# EAGLE library part TPS5430 (library custom)
Synchronous Buck Converter Voltage Regulator 4.5-28V In 0.6-28V Out 3A 400kHz
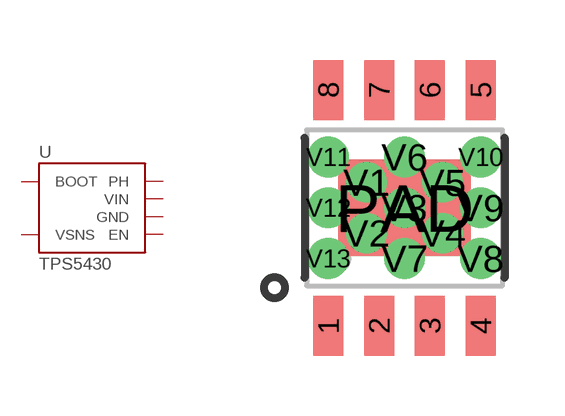
[diagram p51: symbol with the pads of 8-SOIC-PWR; footprint 8-SOIC-PWR]

Designator prefix U

## TPS5430  [8-SOIC-PWR]
1  BOOT
4  VSNS
5  EN
6  GND
7  VIN
8  PH
PAD  GND
V1  GND
V2  GND
V3  GND
V4  GND
V5  GND

## Footprint 8-SOIC-PWR (pad centres in mm)
smd 0.75 x 1.5: 1 -1.905,-2.95; 2 -0.635,-2.95; 3 0.635,-2.95; 4 1.905,-2.95; 5 1.905,2.95; 6 0.635,2.95; 7 -0.635,2.95; 8 -1.905,2.95
smd 3.302 x 2.413: PAD 0,0
drill 0.508: V1 -0.953,0.635; V2 -0.953,-0.635; V3 0,0; V4 0.953,-0.635; V5 0.953,0.635; V6 0,1.27; V7 0,-1.27; V8 1.905,-1.27; V9 1.905,0; V10 1.905,1.27; V11 -1.905,1.27; V12 -1.905,0; V13 -1.905,-1.27